# EAGLE library part DIN-5V (library _mtvl.connectors)
DiN-5 vertical mount
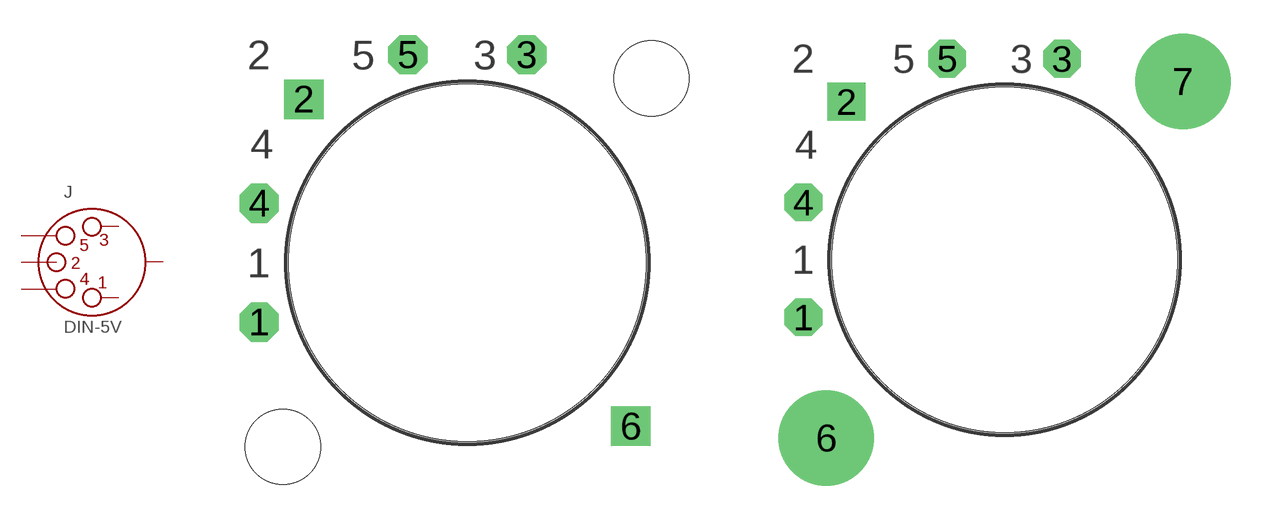
[diagram p8: symbol with the pads of DIN-5V; footprints DIN-5V, DIN-5V_ALT]

Designator prefix J

## DIN-5V  [DIN-5V]
1  1  pas
2  2  pas
3  3  pas
4  4  pas
5  5  pas
6  6  pas

## DIN-5VALT  [DIN-5V_ALT]
1  1  pas
2  2  pas
3  3  pas
4  4  pas
5  5  pas
6  6  pas
7  6  pas

## Footprint DIN-5V (pad centres in mm)
drill 0.9 pad 1.676 octagon: 1 -8.89,-2.54; 3 2.54,8.89; 4 -8.89,2.54; 5 -2.54,8.89
drill 0.9 pad 1.676 square: 2 -6.985,6.985; 6 6.985,-6.985
hole 3.2 at 7.874,7.874
hole 3.2 at -7.874,-7.874
hole 15.24 at 0,0

## Footprint DIN-5V_ALT (pad centres in mm)
drill 0.9 pad 1.676 octagon: 1 -8.89,-2.54; 3 2.54,8.89; 4 -8.89,2.54; 5 -2.54,8.89
drill 0.9 pad 1.676 square: 2 -6.985,6.985
drill 3.2: 6 -7.874,-7.874; 7 7.874,7.874
hole 15.24 at 0,0